# EAGLE library part YM3014B (library 68komputer)
YM3014 – Floating D/A Converter (for YM3812) Datasheet <http://www.atkinsoft.com/datasheets/YM3014B.PDF>
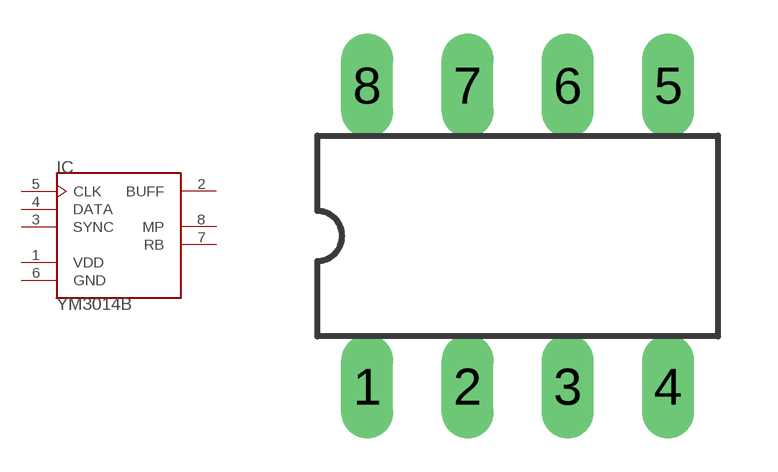
[diagram p28: symbol with the pads of DIL8; footprint DIL8]

Designator prefix IC

## YM3014BDIL8 (VALUE: YM3014B)  [DIL8]
1  VDD  pwr
2  BUFF  out
3  SYNC  in
4  DATA  in
5  CLK  in
6  GND  pwr
7  RB  out
8  MP  out

## Footprint DIL8 (pad centres in mm)
Dual In Line package type P
drill 0.813 long: 1 -3.81,-3.81; 2 -1.27,-3.81; 3 1.27,-3.81; 4 3.81,-3.81; 5 3.81,3.81; 6 1.27,3.81; 7 -1.27,3.81; 8 -3.81,3.81